# Altium schematic symbol library btretro_schlib.SchLib: 68 symbols (part 1 of 3)
Pins are listed as number, name and electrical type; pins without a type are passive.

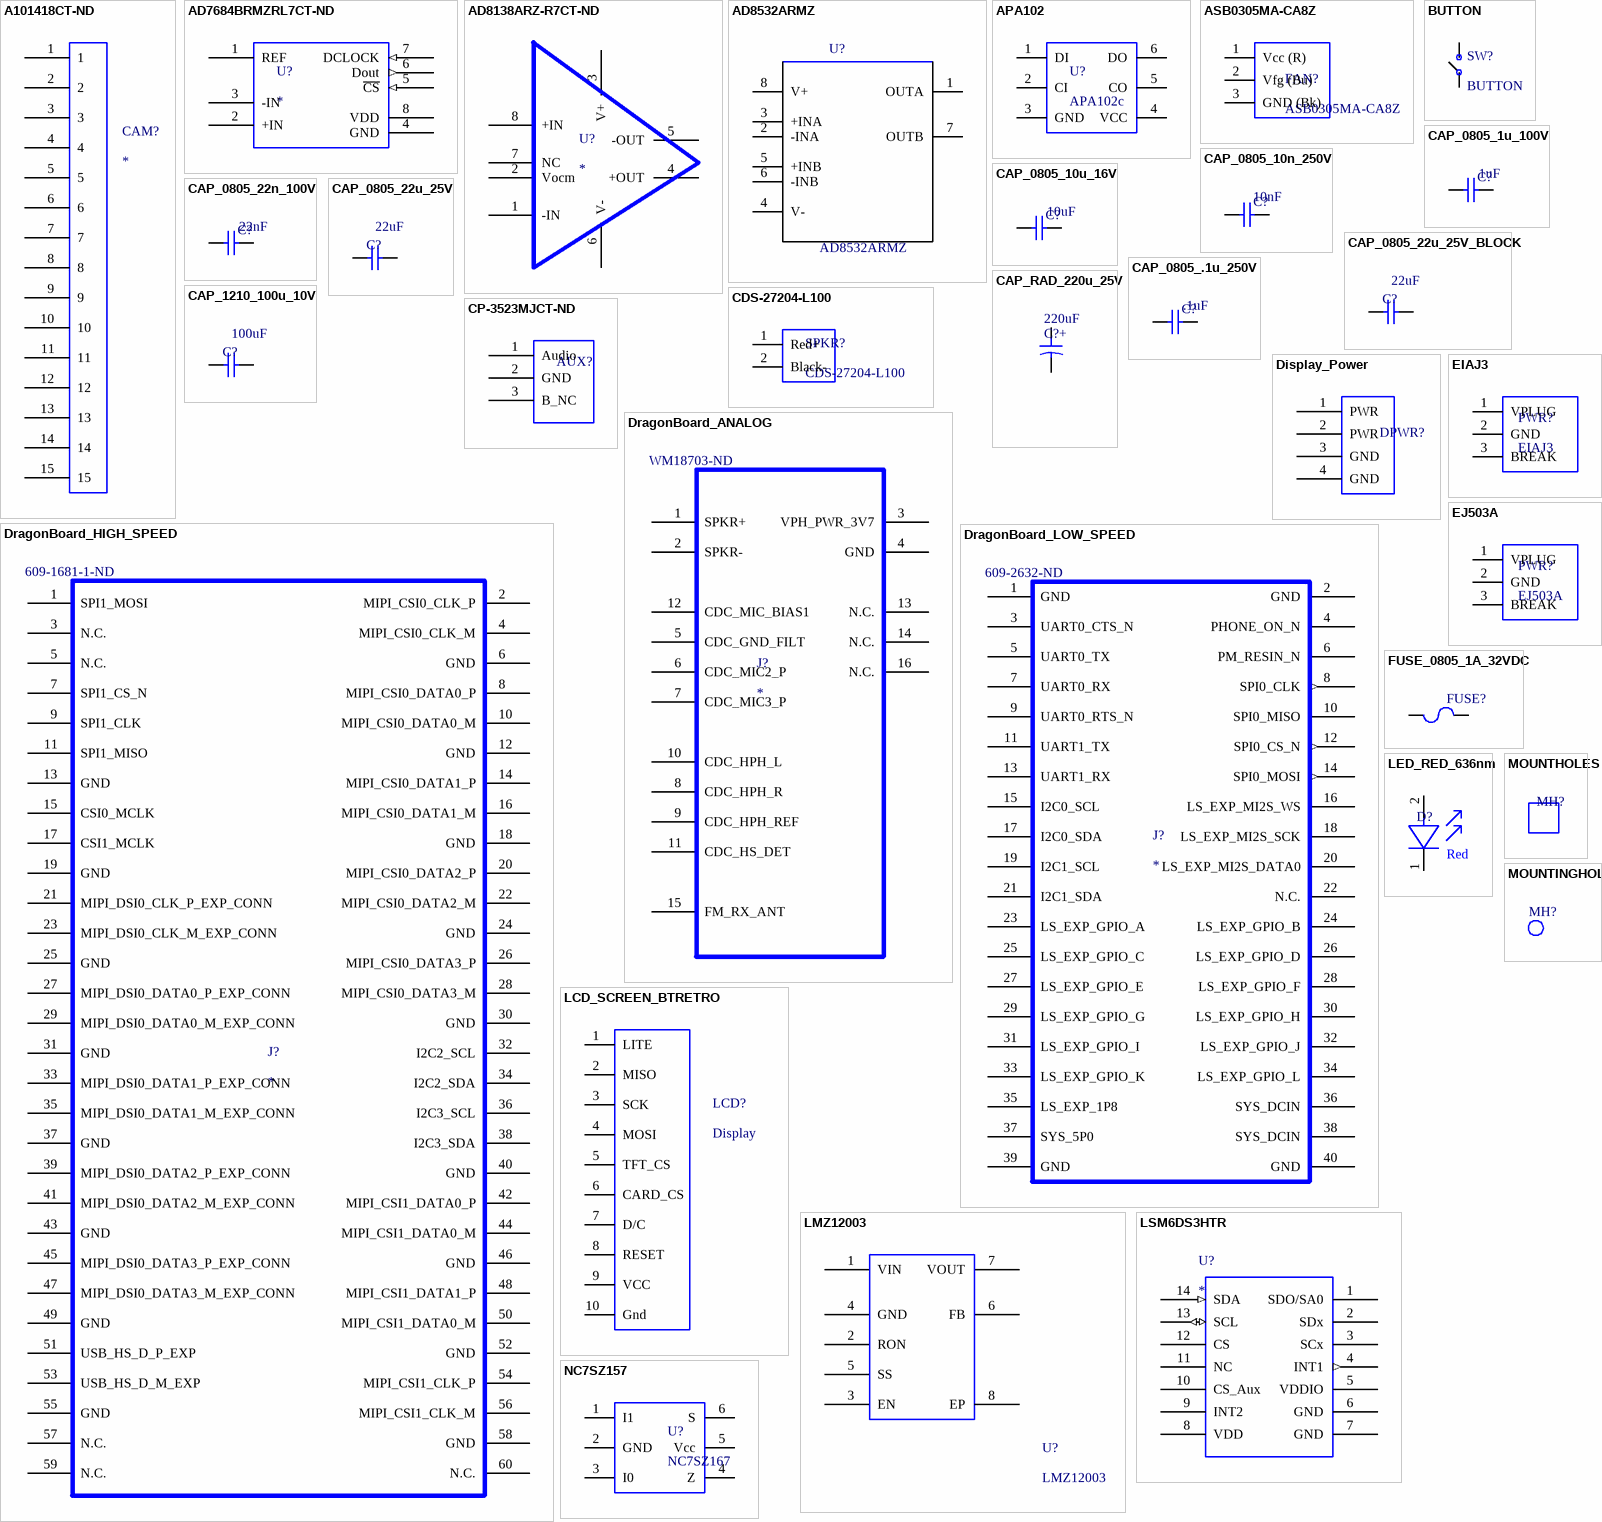
[diagram p0: symbols A101418CT-ND to NC7SZ157]

## A101418CT-ND
designator CAM?
CONN FPC VERT 15POS 1.00MM SMD; Manufacturer: TE Connectivity; Manufacturer Part Number: 1-1734248-5; Current Rating: 1A; Voltage Rating: 125V; Gender: Receptacle; Number of Positions: 15; Shielding: Unshielded; Connector Type: Connector,Receptacle,Socket; Wire/Cable Type: Flat Flex; Connector System: Flex-to-Board; Mating Alignment: Yes (With); PCB Mount Alignment: No (Without); PCB Mount Retention: With; PCB Mounting Orientation: Vertical; Pitch: 0.039inch; Supplier 1: Digi-Key; Stock 1: 14321; Pricing 1: 1=1.67, 10=1.515, 25=1.4224, 50=1.3606, 100=1.2988, 250=1.1751, 500=1.0824 (USD); Mount: Surface Mount; Case/Package: SMD/SMT; Contact Plating: Gold; Contact Material: Bronze; Housing Colour: Black; Housing Material: Thermoplastic; Min Operating Temperature: -4°C; Max Operating Temperature: 185°C; Package Quantity: 1000; Packaging: Tape and Reel; Number of Rows: 1; Termination: SMD/SMT; Number of Contacts: 15; Orientation: Straight; Max Current Rating: 1A; Sealable: No (Without); Shrouded: Yes (With); Length: 22.4mm; Height: 7.7mm; Width: 4.6mm; Depth: 4.6mm; REACH SVHC: Unknown; ELV: Compliant; Flammability Rating: UL94 V-0; ComponentLink1URL: https://datasheet.ciiva.com/672/eng-cd-1734248-e1-672176.pdf; ComponentLink1Description: https://datasheet.ciiva.com/672/eng-cd-1734248-e1-672176.pdf; ComponentLink2URL: https://datasheet.ciiva.com/672/eng-cd-1734248-e1-672177.pdf; ComponentLink2Description: https://datasheet.ciiva.com/672/eng-cd-1734248-e1-672177.pdf; ComponentLink3URL: https://datasheet.ciiva.com/672/eng-cd-1734248-e1-672178.pdf; ComponentLink3Description: https://datasheet.ciiva.com/672/eng-cd-1734248-e1-672178.pdf; ComponentLink4URL: https://datasheet.ciiva.com/7989/eng-ds-1-1773440-6-0506-7989477.pdf; ComponentLink4Description: https://datasheet.ciiva.com/7989/eng-ds-1-1773440-6-0506-7989477.pdf; ComponentLink5URL: https://datasheet.ciiva.com/16660/eng-ds-1-1773440-6-0506-16660185.pdf; ComponentLink5Description: https://datasheet.ciiva.com/16660/eng-ds-1-1773440-6-0506-16660185.pdf; Supplier Part Number 1: A101418CT-ND
footprint ZIF_15pin
pins: 1, 2, 3, 4, 5, 6, 7, 8, 9, 10, 11, 12, 13, 14, 15

## AD7684BRMZRL7CT-ND
designator U?
IC ADC 16BIT 100KSPS DIFF 8MSOP; Manufacturer: Analog Devices; Manufacturer Part Number: AD7684BRMZRL7; Max Power Dissipation: 6mW; Supply Voltage: 5V; Min Supply Voltage: 2.7V; Max Supply Voltage: 5.5V; Number of Channels: 1; Interface: SPI; Power Consumption: 4mW; Resolution: 16b; Sampling Rate: 100KS/s; Signal to Noise Ratio (SNR): 91dB; Number of Bits: 16; Polarity: Bipolar; Supply Type: Single; Integral Nonlinearity (INL): 3LSB; Input Capacitance: 30pF; Full Scale Error: 15LSB; Min Input Voltage: 500mV; Supplier 1: Digi-Key; Stock 1: 2500; Pricing 1: 1=14.81, 10=13.613, 100=11.4968 (USD); Case/Package: MSOP; Number of Pins: 8; Contact Plating: Gold; Min Operating Temperature: -40°C; Max Operating Temperature: 85°C; Package Quantity: 1000; Packaging: Tape and Reel; Number of Converters: 1; Number of Inputs: 1; Number of A/D Converters: 1; Number of Analog Inputs: 1; Number of Elements: 1; Power Dissipation: 6mW; Max Input Voltage: 5.5V; Length: 3mm; Height: 0.85mm; Width: 3mm; Lead Free: Contains Lead; ComponentLink1URL: https://datasheet.ciiva.com/16322/ad7684-278579-16322642.pdf; ComponentLink1Description: https://datasheet.ciiva.com/16322/ad7684-278579-16322642.pdf; ComponentLink2URL: https://datasheet.ciiva.com/8195/ad7684-8195814.pdf; ComponentLink2Description: https://datasheet.ciiva.com/8195/ad7684-8195814.pdf; ComponentLink3URL: https://datasheet.ciiva.com/1287/ad7684-1287305.pdf; ComponentLink3Description: https://datasheet.ciiva.com/1287/ad7684-1287305.pdf; ComponentLink4URL: https://datasheet.ciiva.com/16612/ad7684-16612158.pdf; ComponentLink4Description: https://datasheet.ciiva.com/16612/ad7684-16612158.pdf; Supplier Part Number 1: AD7684BRMZRL7CT-ND
footprint MSOP8
pins: 1 REF, 2 +IN, 3 -IN, 4 GND, 5 ~{CS} (in), 6 Dout (out), 7 DCLOCK (in), 8 VDD

## AD8138ARZ-R7CT-ND
designator U?
SP Amp Differential ADC Driver Single ±5.5V/11V 8-Pin SOIC N T/R; Manufacturer: Analog Devices; Manufacturer Part Number: AD8138ARZ-R7; Min Supply Voltage: 2.7V; Max Supply Voltage: 11V; Min Dual Supply Voltage: 1.4V; Max Dual Supply Voltage: 5.5V; Common Mode Rejection Ratio: 70dB; Number of Channels: 1; Bandwidth: 320MHz; Slew Rate: 1150V/µs; Nominal Supply Current: 20mA; Max Power Dissipation: 550mW; Input Offset Voltage (Vos): 1mV; Input Bias Current: 7uA; Voltage Gain: 0.028dB; Input Resistance: 6MR; Supplier 1: Digi-Key; Stock 1: 0; Pricing 1: 1=9.26, 10=8.365, 100=6.9255, 500=6.0306 (USD); Mount: Surface Mount; Case/Package: SOIC; Number of Pins: 8; Min Operating Temperature: -40°C; Max Operating Temperature: 85°C; Package Quantity: 1000; Packaging: Tape and Reel; Operating Supply Current: 20mA; Power Supply Rejection Ratio (PSRR): 70dB; Number of Elements: 1; Power Dissipation: 550mW; Gain Bandwidth Product: 320MHz; Number of Circuits: 1; -3db Bandwidth: 320MHz; Radiation Hardening: No; Lead Free: Contains Lead; ComponentLink1URL: https://datasheet.ciiva.com/2975/ad8138-2975957.pdf; ComponentLink1Description: https://datasheet.ciiva.com/2975/ad8138-2975957.pdf; ComponentLink2URL: https://datasheet.ciiva.com/14848/ad8138-14848182.pdf; ComponentLink2Description: https://datasheet.ciiva.com/14848/ad8138-14848182.pdf; ComponentLink3URL: https://datasheet.ciiva.com/7615/ad8138-7615959.pdf; ComponentLink3Description: https://datasheet.ciiva.com/7615/ad8138-7615959.pdf; ComponentLink4URL: https://datasheet.ciiva.com/14848/ad8138-14848183.pdf; ComponentLink4Description: https://datasheet.ciiva.com/14848/ad8138-14848183.pdf; ComponentLink5URL: https://datasheet.ciiva.com/17371/ad8138-17371687.pdf; ComponentLink5Description: https://datasheet.ciiva.com/17371/ad8138-17371687.pdf; ComponentLink6URL: https://datasheet.ciiva.com/15128/getdatasheetpartid-86354-15128216.pdf; ComponentLink6Description: https://datasheet.ciiva.com/15128/getdatasheetpartid-86354-15128216.pdf; ComponentLink7URL: https://datasheet.ciiva.com/2975/ad8138-2975645.pdf; ComponentLink7Description: https://datasheet.ciiva.com/2975/ad8138-2975645.pdf; ComponentLink8URL: https://datasheet.ciiva.com/15382/ad8138-246651-15382031.pdf; ComponentLink8Description: https://datasheet.ciiva.com/15382/ad8138-246651-15382031.pdf; Supplier Part Number 1: AD8138ARZ-R7CT-ND
footprint SOIC127P600X175-8N (SOIC, 8-Leads, Body 4.90x3.90mm, Pitch 1.27mm, IPC Medium Density)
pins: 1 -IN, 2 Vocm, 3 V+, 4 +OUT, 5 -OUT, 6 V-, 7 NC, 8 +IN

## AD8532ARMZ
designator U?
OP Amp Dual General Purpose Rail to Rail I/O 6 Volt 8-Pin SOIC N; MF: Analog Devices; MP: AD8532ARZ; Min Supply Voltage: 2.7V; Max Supply Voltage: 6V; Voltage Gain: 98.06dB; Common Mode Rejection Ratio: 47dB; Unity Gain Bandwidth Product: 3MHz; Slew Rate: 5V/µs; Number of Circuits: 2; Input Bias Current: 50pA; Input Offset Voltage (Vos): 25mV; Operating Supply Current: 2.5mA; Output Current per Channel: 250mA; Input Voltage Noise Density: 45nV/sqrt Hz; Power Supply Rejection Ratio (PSRR): 55dB; Quiescent Current: 1.25mA; Settling Time: 1.4us; Supply Voltage: 5V; Digi-Key_Purchase_URL: https://www.digikey.com/product-detail/en/analog-devices-inc/AD8532ARZ/AD8532ARZ-ND/643200?WT.z_cid=ref_snapeda; Package: SOIC-8 Analog Devices; Value: *; Supplier 1: Digi-Key; Manufacturer: Analog Devices; Manufacturer Part Number: AD8532ARZ; Stock 1: 4985; Pricing 1: 1=1.33, 98=1.1312, 196=0.9292, 588=0.7676, 1078=0.606, 2548=0.5656, 5096=0.5373 (USD); Case/Package: SOIC; Number of Pins: 8; Contact Plating: Tin,Matte; Min Operating Temperature: -40°C; Max Operating Temperature: 85°C; Package Quantity: 98; Packaging: Rail/Tube; Gain Bandwidth Product: 3MHz; Number of Channels: 2; Number of Elements: 2; Number of Amplifiers: 2; Bandwidth: 3MHz; Max Supply Current: 2.5mA; Length: 5mm; Height: 1.5mm; Width: 4mm; Radiation Hardening: No; Lead Free: Contains Lead; REACH SVHC: No SVHC; ComponentLink1URL: https://datasheet.ciiva.com/1794/ad8531-8532-8534-1794017.pdf; ComponentLink1Description: https://datasheet.ciiva.com/1794/ad8531-8532-8534-1794017.pdf; ComponentLink2URL: https://datasheet.ciiva.com/15130/getdatasheetpartid-67655-15130130.pdf; ComponentLink2Description: https://datasheet.ciiva.com/15130/getdatasheetpartid-67655-15130130.pdf; ComponentLink3URL: https://datasheet.ciiva.com/2973/ad8531-8532-8534-2973059.pdf; ComponentLink3Description: https://datasheet.ciiva.com/2973/ad8531-8532-8534-2973059.pdf; ComponentLink4URL: https://datasheet.ciiva.com/1135/82474-1135583.pdf; ComponentLink4Description: https://datasheet.ciiva.com/1135/82474-1135583.pdf; ComponentLink5URL: https://datasheet.ciiva.com/26849/ad8532arz-26849258.pdf; ComponentLink5Description: https://datasheet.ciiva.com/26849/ad8532arz-26849258.pdf; Digi-Key_Part_Number: AD8532ARZ-ND; Supplier Part Number 1: AD8532ARZ-ND
footprint SOIC127P600X175-8N (SOIC, 8-Leads, Body 4.90x3.90mm, Pitch 1.27mm, IPC Medium Density)
pins: 1 OUTA, 2 -INA, 3 +INA, 4 V- (power), 5 +INB, 6 -INB, 7 OUTB, 8 V+ (power)

## APA102
designator U?, comment APA102c
SPI LED; LINK: https://www.adafruit.com/product/2343
footprint LED_APA
pins: 1 DI, 2 CI, 3 GND, 4 VCC, 5 CO, 6 DO

## ASB0305MA-CA8Z
designator FAN?
FAN AXIAL 30X10MM 5VDC WIRE; Manufacturer: Delta Design; Airflow: 3.4CFM; Noise: 23dBA; Current Rating: 110mA; Max Power Dissipation: 550mW; RPM: 9000RPM; Bearing Type: Sleeve; Supplier 1: Digi-Key; Supplier Part Number 1: 603-1847-ND; Manufacturer Part Number: ASB0305MA-CA8Z; Stock 1: 98; Pricing 1: 1=6.96, 10=6.38, 50=5.365 (USD); Weight: 0.015lb; Min Operating Temperature: 14°C; Max Operating Temperature: 158°C; Package Quantity: 720; Termination: 3 Wire Leads; Width: 10mm; ComponentLink1URL: //media.digikey.com/pdf/Data%20Sheets/Delta%20PDFs/ASB0305MA-CA8Z_Spec.pdf; ComponentLink1Description: //media.digikey.com/pdf/Data%20Sheets/Delta%20PDFs/ASB0305MA-CA8Z_Spec.pdf
footprint FAN_HEADER
pins: 1 Vcc (R), 2 Vfg (Bu), 3 GND (Bk)

## BUTTON
designator SW?
...It's a button!; link: https://www.sparkfun.com/products/11996
footprint BUTTON
pins: 1, 2

## CAP_0805_1u_100V
designator C?  value 1uF  (hidden comment: CAP_0805_1u_100V)
CAP CER 1UF 100V X7S 0805; Manufacturer: TDK; Manufacturer Part Number: C2012X7S2A105K125AE; Tolerance: 10%; Supplier 1: Digi-Key; Supplier Part Number 1: 445-8887-1-ND; Stock 1: 75778; Pricing 1: 1=0.46, 10=0.327, 100=0.2152, 500=0.1594, 1000=0.1355 (USD); Case/Package: 0805; Case Code (Metric): 2012; Case Code (Imperial): 0805; Min Operating Temperature: -55°C; Max Operating Temperature: 125°C; Package Quantity: 1; Capacitance: 1uF; Voltage Rating: 100V; Packaging: Tape and Reel; Voltage Rating (DC): 100V; Dielectric: X7S; Termination: SMD/SMT; Composition: Ceramic; Length: 2mm; Height: 1.25mm; Width: 0.05inch; Thickness: 0.049inch; Depth: 1.25mm; Lead Free: Lead Free; ComponentLink1URL: https://datasheet.ciiva.com/6252/mlcc-commercial-soft-en-6252535.pdf; ComponentLink1Description: https://datasheet.ciiva.com/6252/mlcc-commercial-soft-en-6252535.pdf; ComponentLink2URL: https://datasheet.ciiva.com/6252/mlcc-commercial-soft-en-6252538.pdf; ComponentLink2Description: https://datasheet.ciiva.com/6252/mlcc-commercial-soft-en-6252538.pdf; ComponentLink3URL: https://datasheet.ciiva.com/6252/mlcc-commercial-soft-en-6252540.pdf; ComponentLink3Description: https://datasheet.ciiva.com/6252/mlcc-commercial-soft-en-6252540.pdf; ComponentLink4URL: https://datasheet.ciiva.com/24219/c2012x7s2a105k125ae-265181-24219982.pdf; ComponentLink4Description: https://datasheet.ciiva.com/24219/c2012x7s2a105k125ae-265181-24219982.pdf
footprint CAPC2012X135N
pins: 1, 2

## CAP_0805_10n_250V
designator C?  Capacitance: 10nF  (hidden comment: CAP_0805_10n_250V)
Cap Ceramic 0.1uF 250V X7T 10% SMD 0805 125C Plastic T/R; Manufacturer: TDK; Manufacturer Part Number: C2012X7R2E103K125AA; Description: CAP CER 10000PF 250V X7R 0805; Dielectric: X7R; Supplier 1: Digi-Key; Stock 1: 156464; Pricing 1: 1=0.19, 10=0.135, 100=0.0633, 500=0.0444, 1000=0.0367 (USD); Mount: Surface Mount; Case/Package: 0805; Number of Pins: 2; Weight: 0.000194oz; Case Code (Metric): 2012; Case Code (Imperial): 0805; Min Operating Temperature: -55°C; Max Operating Temperature: 125°C; Packaging: Tape and Reel; Package Quantity: 1; Termination: SMD/SMT; Tolerance: 10%; Voltage Rating: 250V; Voltage Rating (DC): 250V; Composition: Ceramic; Length: 2mm; Height: 1.25mm; Width: 0.049inch; Thickness: 0.053inch; Depth: 1.25mm; Lead Free: Lead Free; REACH SVHC: No SVHC; ComponentLink1URL: https://datasheet.ciiva.com/24219/c2012x7r2e103k125aa-265098-24219253.pdf; ComponentLink1Description: https://datasheet.ciiva.com/24219/c2012x7r2e103k125aa-265098-24219253.pdf; ComponentLink2URL: https://datasheet.ciiva.com/22684/1484596-22684119.pdf; ComponentLink2Description: https://datasheet.ciiva.com/22684/1484596-22684119.pdf; ComponentLink3URL: https://datasheet.ciiva.com/7975/1833281-7975113.pdf; ComponentLink3Description: https://datasheet.ciiva.com/7975/1833281-7975113.pdf; ComponentLink4URL: https://datasheet.ciiva.com/28602/1484596-28602284.pdf; ComponentLink4Description: https://datasheet.ciiva.com/28602/1484596-28602284.pdf; ComponentLink5URL: https://datasheet.ciiva.com/16427/e412-c-16427789.pdf; ComponentLink5Description: https://datasheet.ciiva.com/16427/e412-c-16427789.pdf; Supplier Part Number 1: 445-2280-1-ND
footprint CAPC2012X135N
pins: 1, 2

## CAP_0805_10u_16V
designator C?  value 10uF  (hidden comment: CAP_0805_10u_16V)
Cap Ceramic 10uF 16V X5R 10% SMD 0805 85C T/R; Manufacturer: Johanson Dielectrics; Manufacturer Part Number: 160R15X106KV4E; Supplier 1: Digi-Key; Supplier Part Number 1: 709-1229-1-ND; Stock 1: 36636; Pricing 1: 1=0.55, 10=0.387, 100=0.2552, 500=0.189, 1000=0.1607 (USD); Mount: Surface Mount; Case/Package: 0805; Number of Pins: 2; Weight: 0.000194oz; Case Code (Imperial): 0805; Case Code (Metric): 2012; Min Operating Temperature: -55°C; Max Operating Temperature: 85°C; Voltage Rating: 16V; Capacitance: 10uF; Voltage Rating (DC): 16V; Tolerance: 10%; Packaging: Tape and Reel; Package Quantity: 2000; Dielectric: X5R; Termination: SMD/SMT; Length: 2.03mm; Height: 1.27mm; Width: 1.27mm; Thickness: 0.06inch; Depth: 1.27mm; Radiation Hardening: No; REACH SVHC: No SVHC; ComponentLink1URL: https://datasheet.ciiva.com/26948/getdatasheetpartid-132904-26948555.pdf; ComponentLink1Description: https://datasheet.ciiva.com/26948/getdatasheetpartid-132904-26948555.pdf
footprint CAPC2012X135N
pins: 1, 2

## CAP_0805_22n_100V
designator C?, comment value 22nF  (hidden comment: CAP_0805_m22n)
CAP CER 0.022UF 100V X7R 0805; Manufacturer: TDK; Manufacturer Part Number: CGJ4J2X7R2A223K125AA; Tolerance: 10%; Supplier 1: Digi-Key; Supplier Part Number 1: 445-9184-1-ND; Stock 1: 2508; Pricing 1: 1=0.42, 10=0.292, 100=0.175, 500=0.1312, 1000=0.1108 (USD); Case/Package: 0805; Weight: 0.000194oz; Case Code (Metric): 2012; Case Code (Imperial): 0805; Min Operating Temperature: -55°C; Max Operating Temperature: 125°C; Package Quantity: 1; Capacitance: 22nF; Voltage Rating: 100V; Packaging: Tape and Reel; Voltage Rating (DC): 100V; Dielectric: X7R; Termination: SMD/SMT; Composition: Ceramic; Length: 0.08inch; Height: 1.25mm; Width: 0.05inch; Thickness: 0.057inch; ComponentLink1URL: http://www.mouser.com/ds/2/400/lcc_highreliability_midvoltage_en-520194.pdf; ComponentLink1Description: http://www.mouser.com/ds/2/400/lcc_highreliability_midvoltage_en-520194.pdf; ComponentLink2URL: http://product.tdk.com/capacitor/mlcc/en/documents/mlccspec_highreliability_en.pdf; ComponentLink2Description: http://product.tdk.com/capacitor/mlcc/en/documents/mlccspec_highreliability_en.pdf
footprint CAPC2012X135N
pins: 1, 2

## CAP_0805_22u_25V
designator C?  value 22uF  (hidden comment: CAP_0805_22u_25V)
22µF ±20% 25V X5R Ceramic Capacitor -55°C ~ 85°C Surface Mount, MLCC 0805 (2012 Metric) 0.079" L x 0.049" W (2.00mm x 1.25mm); Manufacturer: Samsung; Manufacturer Part Number: CL21A226MAQNNNE; Supplier 1: Digi-Key; Supplier Part Number 1: 1276-2908-1-ND; Stock 1: 536403; Pricing 1: 1=0.92, 10=0.678, 100=0.465, 500=0.3681, 1000=0.31 (USD); Mount: Surface Mount; Case/Package: 0805; Case Code (Metric): 2012; Case Code (Imperial): 0805; Contact Plating: Nickel,Tin; Min Operating Temperature: -55°C; Max Operating Temperature: 85°C; Package Quantity: 1; Packaging: Tape and Reel; Capacitance: 22uF; Tolerance: 20%; Voltage Rating: 25V; Dielectric: X5R; Termination: Wraparound; Length: 2mm; Width: 0.049inch; Thickness: 0.055inch; Depth: 1.25mm; ComponentLink1URL: https://datasheet.ciiva.com/25724/cl21a226maqnnne-25724468.pdf; ComponentLink1Description: https://datasheet.ciiva.com/25724/cl21a226maqnnne-25724468.pdf
footprint CAPC2012X135N
pins: 1, 2

## CAP_0805_22u_25V_BLOCK
designator C?  value 22uF  (hidden comment: CAP_0805_22u_25V_BLOCK)
22µF ±20% 25V X5R Ceramic Capacitor -55°C ~ 85°C Surface Mount, MLCC 0805 (2012 Metric) 0.079" L x 0.049" W (2.00mm x 1.25mm); Manufacturer: Samsung; Manufacturer Part Number: CL21A226MAQNNNE; Supplier 1: Digi-Key; Supplier Part Number 1: 1276-2908-1-ND; Stock 1: 536403; Pricing 1: 1=0.92, 10=0.678, 100=0.465, 500=0.3681, 1000=0.31 (USD); Mount: Surface Mount; Case/Package: 0805; Case Code (Metric): 2012; Case Code (Imperial): 0805; Contact Plating: Nickel,Tin; Min Operating Temperature: -55°C; Max Operating Temperature: 85°C; Package Quantity: 1; Packaging: Tape and Reel; Capacitance: 22uF; Tolerance: 20%; Voltage Rating: 25V; Dielectric: X5R; Termination: Wraparound; Length: 2mm; Width: 0.049inch; Thickness: 0.055inch; Depth: 1.25mm; ComponentLink1URL: https://datasheet.ciiva.com/25724/cl21a226maqnnne-25724468.pdf; ComponentLink1Description: https://datasheet.ciiva.com/25724/cl21a226maqnnne-25724468.pdf
footprint CAPC2012X135N
pins: 1, 2

## CAP_0805_.1u_250V
designator C?  value .1uF  (hidden comment: CAP_0805_.1u_250V)
Cap Ceramic 0.1uF 250V X7T 10% SMD 0805 125C Plastic T/R; Manufacturer: TDK; Manufacturer Part Number: C2012X7T2E104K125AE; Capacitance: 100nF; Supplier 1: Digi-Key; Supplier Part Number 1: 445-8883-1-ND; Stock 1: 30376; Pricing 1: 1=0.37, 10=0.25, 100=0.1419, 500=0.1002, 1000=0.0877 (USD); Case/Package: 0805; Weight: 0.000194oz; Case Code (Metric): 2012; Case Code (Imperial): 0805; Min Operating Temperature: -55°C; Max Operating Temperature: 125°C; Package Quantity: 1; Voltage Rating: 250V; Tolerance: 10%; Packaging: Tape and Reel; Voltage Rating (DC): 250V; Dielectric: X7T; Termination: SMD/SMT; Composition: Ceramic; Length: 2mm; Height: 1.25mm; Width: 0.05inch; Thickness: 0.049inch; Depth: 1.25mm; REACH SVHC: No SVHC; ComponentLink1URL: https://datasheet.ciiva.com/24219/c2012x7t2e104k125ae-265154-24219519.pdf; ComponentLink1Description: https://datasheet.ciiva.com/24219/c2012x7t2e104k125ae-265154-24219519.pdf
footprint CAPC2012X135N
pins: 1, 2

## CAP_1210_100u_10V
designator C?  value 100uF  (hidden comment: CAP_1210_100u_10V)
Cap Ceramic 100uF 10V X5R 20% SMD 1210 85C Embossed T/R; Manufacturer: Murata; Manufacturer Part Number: GRM32ER61A107ME20L; Dissipation Factor: 0.035%; Supplier 1: Digi-Key; Supplier Part Number 1: 490-9969-1-ND; Stock 1: 195702; Pricing 1: 1=1.08, 10=0.822, 100=0.5882, 500=0.4554 (USD); Case/Package: 1210; Weight: 0.00388oz; Case Code (Metric): 3225; Material: Ceramic; Case Code (Imperial): 1210; Dielectric Material: Ceramic; Min Operating Temperature: -55°C; Max Operating Temperature: 85°C; Capacitance: 100uF; Tolerance: 20%; Packaging: Tape and Reel; Dielectric: X5R; Voltage Rating: 10V; Voltage: 10V; Termination: SMD/SMT; Voltage Rating (DC): 10V; Package Quantity: 1000; Length: 3.2mm; Height: 2.5mm; Width: 2.5mm; Thickness: 0.106inch; Depth: 2.5mm; REACH SVHC: No SVHC; Lead Free: Lead Free; ComponentLink1URL: http://components.arrow.com/part/dataview/0323_06932945; ComponentLink1Description: http://components.arrow.com/part/dataview/0323_06932945; ComponentLink2URL: http://www.mouser.com/ds/2/281/c02e-2905.pdf; ComponentLink2Description: http://www.mouser.com/ds/2/281/c02e-2905.pdf; ComponentLink3URL: http://www.farnell.com/datasheets/2079200.pdf; ComponentLink3Description: http://www.farnell.com/datasheets/2079200.pdf; ComponentLink4URL: http://psearch.en.murata.com/capacitor/product/GRM32ER61A107ME20%23.pdf; ComponentLink4Description: http://psearch.en.murata.com/capacitor/product/GRM32ER61A107ME20%23.pdf
footprint FP_1210
pins: 1, 2

## CAP_RAD_220u_25V
designator C?, comment Capacitance: 220uF  (hidden comment: CAP ALUM 220UF 20% 25V SMD)
Manufacturer: Nichicon; Manufacturer Part Number: UWT1E221MNL1GS; Dielectric Material: Aluminium; Ripple Current: 155mA; Leakage Current: 3uA; Life (Hours): 1000Hour; Dissipation Factor: 0.16%; Supplier 1: Digi-Key; Stock 1: 22315; Pricing 1: 1=0.44, 10=0.309, 100=0.2034 (USD); Mount: Surface Mount; Case/Package: SMD/SMT; Number of Pins: 2; Min Operating Temperature: -55°C; Max Operating Temperature: 105°C; Tolerance: 20%; Package Quantity: 500; Voltage Rating: 25V; Packaging: Tape and Reel; Ripple Current (AC): 155mA; Voltage Rating (DC): 25V; Termination: SMD/SMT; Voltage: 25V; Diameter: 8mm; Length: 10mm; Height: 10mm; Height - Seated (Max): 0.394inch; Lead Pitch: 3.1mm; Radiation Hardening: No; REACH SVHC: No SVHC; Lead Free: Lead Free; ComponentLink1URL: https://datasheet.ciiva.com/97/e-wt-97056.pdf; ComponentLink1Description: https://datasheet.ciiva.com/97/e-wt-97056.pdf; ComponentLink2URL: https://datasheet.ciiva.com/97/e-wt-97057.pdf; ComponentLink2Description: https://datasheet.ciiva.com/97/e-wt-97057.pdf; ComponentLink3URL: https://datasheet.ciiva.com/30522/getdatasheetpartid-450026-30522226.pdf; ComponentLink3Description: https://datasheet.ciiva.com/30522/getdatasheetpartid-450026-30522226.pdf; ComponentLink4URL: https://datasheet.ciiva.com/5360/e-wt-30307-5360729.pdf; ComponentLink4Description: https://datasheet.ciiva.com/5360/e-wt-30307-5360729.pdf; ComponentLink5URL: https://datasheet.ciiva.com/7851/e-wt-7851755.pdf; ComponentLink5Description: https://datasheet.ciiva.com/7851/e-wt-7851755.pdf; ComponentLink6URL: https://datasheet.ciiva.com/17526/e-wt-17526956.pdf; ComponentLink6Description: https://datasheet.ciiva.com/17526/e-wt-17526956.pdf; ComponentLink7URL: https://datasheet.ciiva.com/28458/1910938-28458412.pdf; ComponentLink7Description: https://datasheet.ciiva.com/28458/1910938-28458412.pdf; ComponentLink8URL: https://datasheet.ciiva.com/97/e-wt-97055.pdf; ComponentLink8Description: https://datasheet.ciiva.com/97/e-wt-97055.pdf; Supplier Part Number 1: 493-2192-1-ND
footprint CAP_RADIAL (Aluminum Electrolytic Capacitor, Body 8.30x8.30x10.50mm, IPC Low Density)
pins: 1, 2
text: +

## CDS-27204-L100
designator SPKR?
4 Ohm Magnetic Speaker 2W 20Hz ~ 20kHz Top Rectangular 93dB; Manufacturer: CUI; Impedance: 4R; Max Power Dissipation: 2.5W; Max Current Rating: 16A; Max Supply Voltage: 250V; Number of Poles: 2; Number of Levels: 1; Current: 18A; Voltage: 300V; Voltage Rating (DC): 320V; Connector Type: Screw; Wire Gauge (Max): 26AWG; Wire Gauge (Min): 12AWG; Pitch: 5mm; Wire/Cable Gauge: 14AWG; Approvals: UL; Supplier 1: Digi-Key; Manufacturer Part Number: CDS-27204-L100; Stock 1: 445; Pricing 1: 1=3.55, 10=3.179, 25=2.8052, 50=2.5246, 100=2.4871, 250=2.3842, 500=2.2908, 1000=2.244 (USD); Shape: Rectangular; Power Rating: 2W; Termination: Wire Leads; Length: 27mm; Height: 6.1mm; Width: 20mm; Lead Free: Lead Free; Supplier Part Number 1: 102-3547-ND; Supplier 2: Digi-Key; Stock 2: 16172; Pricing 2: 1=0.38, 10=0.368, 50=0.352, 100=0.3424, 250=0.32, 500=0.2944, 1000=0.272 (USD); Mount: Through Hole; Weight: 0.067021oz; Colour: Green; Material: Nylon; Housing Colour: Green; Housing Material: Polyamide; Insulation Material: Nylon; Number of Rows: 1; Current Rating: 16A; Voltage Rating: 250V; Package Quantity: 250; Packaging: Bulk; Number of Positions: 2; Number of Positions Per Level: 2; Number of Contacts: 2; Number of Circuits: 2; Orientation: Straight; Depth: 9mm; Radiation Hardening: No; Flammability Rating: UL94 V-0; ComponentLink1URL: https://datasheet.ciiva.com/824/combiconcompact5-0mmseries-824222.pdf; ComponentLink1Description: https://datasheet.ciiva.com/824/combiconcompact5-0mmseries-824222.pdf; ComponentLink2URL: https://datasheet.ciiva.com/15169/getdatasheetpartid-177903-15169663.pdf; ComponentLink2Description: https://datasheet.ciiva.com/15169/getdatasheetpartid-177903-15169663.pdf; ComponentLink3URL: https://datasheet.ciiva.com/16047/1935161-16047247.pdf; ComponentLink3Description: https://datasheet.ciiva.com/16047/1935161-16047247.pdf; Supplier Part Number 2: 277-1667-ND
footprint PHOENIX_2POS_1935161
footprint SPK_BTRETRO
pins: 1 Red+, 2 Black-

## CP-3523MJCT-ND
designator AUX?  (value not drawn)
3.50mm (0.141", 1/8", Mini Plug) - Headphone Phone Jack Mono Connector Solder; Manufacturer: CUI; Manufacturer Part Number: MJ-3523-SMT-TR; Gender: Female; Shielding: Unshielded; Current Rating: 1A; Supplier 1: Digi-Key; Stock 1: 44959; Pricing 1: 1=1.02, 10=0.9, 25=0.8476, 50=0.8122, 100=0.7768, 250=0.7062 (USD); Case/Package: SMD/SMT; Contact Plating: Silver; Packaging: Cut Tape; Termination: Solder; Lead Free: Lead Free; Supplier Part Number 1: CP-3523MJCT-ND
footprint Audio_Conn_Mono
pins: 1 Audio, 2 GND, 3 B_NC

## Display_Power
designator DPWR?  (value not drawn)
4 Position Thru Hole Connection; Manufacturer: Phoenix Contact; Manufacturer Part Number: 1935187; Max Current Rating: 16A; Number of Poles: 4; Voltage Rating: 250V; Number of Levels: 1; Current: 18A; Voltage: 300V; Voltage Rating (DC): 508mV; Wire Gauge (Max): 26AWG; Wire Gauge (Min): 12AWG; Pitch: 5mm; Wire/Cable Gauge: 14AWG; Approvals: UL; Supplier 1: Digi-Key; Stock 1: 5969; Pricing 1: 1=0.77, 10=0.736, 50=0.704, 100=0.6848, 250=0.64, 500=0.5888, 1000=0.544 (USD); Mount: Through Hole; Weight: 0.134041oz; Colour: Green; Material: Nylon; Housing Colour: Green; Housing Material: Polyamide; Insulation Material: Nylon; Current Rating: 16A; Package Quantity: 250; Number of Rows: 1; Max Supply Voltage: 250V; Packaging: Bulk; Termination: Screw; Number of Positions Per Level: 4; Number of Contacts: 4; Number of Circuits: 4; Orientation: Straight; Number of Positions: 4; Length: 20mm; Height: 11.3mm; Width: 15mm; Depth: 9mm; Radiation Hardening: No; Lead Free: Lead Free; Flammability Rating: UL94 V-0; ComponentLink1URL: https://datasheet.ciiva.com/16047/1935187-16047251.pdf; ComponentLink1Description: https://datasheet.ciiva.com/16047/1935187-16047251.pdf; ComponentLink2URL: https://datasheet.ciiva.com/823/combiconcompact5-0mmseries-823770.pdf; ComponentLink2Description: https://datasheet.ciiva.com/823/combiconcompact5-0mmseries-823770.pdf; Supplier Part Number 1: 277-1579-ND
footprint PHOENIX_4POS_1935187
pins: 1 PWR, 2 PWR, 3 GND, 4 GND

## DragonBoard_ANALOG
designator J?  Supplier Part Number 1: WM18703-ND
Conn Socket Strip RCP 16 POS 2mm Solder ST SMD Tube; Manufacturer: Molex; Manufacturer Part Number: 0791091007; Connector Type: Receptacle,Socket; Number of Positions: 16; Gender: Female; Max Voltage Rating (AC): 125V; Contact Resistance: 25mR; Row Spacing: 0.079inch; Supplier 1: Digi-Key; Stock 1: 8937; Pricing 1: 1=2.66, 10=2.554, 100=2.1284, 500=1.8091, 1000=1.5431, 5000=1.3835 (USD); Case/Package: SMD/SMT; Colour: Black; Contact Plating: Nickel,Gold; Contact Material: Bronze; Housing Colour: Black; Housing Material: Polymer; Min Operating Temperature: -55°C; Max Operating Temperature: 105°C; Packaging: Rail/Tube; Number of Rows: 2; Termination: Solder; Number of Contacts: 16; Orientation: Straight; Length: 16.19mm; Pitch: 2mm; Depth: 4.19mm; ComponentLink1URL: https://datasheet.ciiva.com/10078/0791091007-pcb-receptacles-10078749.pdf; ComponentLink1Description: https://datasheet.ciiva.com/10078/0791091007-pcb-receptacles-10078749.pdf
footprint 16_PIN_ANALOG_CONN
pins: 1 SPKR+, 2 SPKR-, 3 VPH_PWR_3V7, 4 GND, 5 CDC_GND_FILT, 6 CDC_MIC2_P, 7 CDC_MIC3_P, 8 CDC_HPH_R, 9 CDC_HPH_REF, 10 CDC_HPH_L, 11 CDC_HS_DET, 12 CDC_MIC_BIAS1, 13 N.C., 14 N.C., 15 FM_RX_ANT, 16 N.C.

## DragonBoard_HIGH_SPEED
designator J?  Supplier Part Number 1: 609-1681-1-ND
60 Position Connector Plug, Center Strip Contacts Surface Mount Gold; Manufacturer: Amphenol FCI; Manufacturer Part Number: 61083-064402LF; Contact Resistance: 50mR; Number of Positions: 60; Max Voltage Rating (AC): 100V; Current Rating: 500mA; Gender: Male; Pitch: 0.8mm; Stack Height: 7.7mm; Supplier 1: Digi-Key; Stock 1: 579; Pricing 1: 1=6.36, 10=6.094, 25=5.5644, 50=5.2994, 100=5.0344, 250=4.5044 (USD); Mount: Surface Mount; Case/Package: SMD/SMT; Contact Plating: Nickel,Gold; Contact Material: Brass,Copper Alloy; Housing Material: Polymer; Min Operating Temperature: -40°C; Max Operating Temperature: 125°C; Number of Rows: 2; Packaging: Tape and Reel; Package Quantity: 600; Connector Type: Plug; Termination: Solder; Number of Contacts: 60; Orientation: Straight; Voltage Rating: 100V; Length: 29.8mm; Depth: 6mm; Width: 6mm; Lead Free: Lead Free; Flammability Rating: UL94 V-0; ComponentLink1URL: https://datasheet.ciiva.com/15208/getdatasheetpartid-64898-15208309.pdf; ComponentLink1Description: https://datasheet.ciiva.com/15208/getdatasheetpartid-64898-15208309.pdf; ComponentLink2URL: https://datasheet.ciiva.com/17088/70248518-17088294.pdf; ComponentLink2Description: https://datasheet.ciiva.com/17088/70248518-17088294.pdf; ComponentLink3URL: https://datasheet.ciiva.com/394/61083-394311.pdf; ComponentLink3Description: https://datasheet.ciiva.com/394/61083-394311.pdf; ComponentLink4URL: https://datasheet.ciiva.com/5129/61083-5129495.pdf; ComponentLink4Description: https://datasheet.ciiva.com/5129/61083-5129495.pdf; ComponentLink5URL: https://datasheet.ciiva.com/10034/61083-10034439.pdf; ComponentLink5Description: https://datasheet.ciiva.com/10034/61083-10034439.pdf; ComponentLink6URL: https://datasheet.ciiva.com/394/61083-394312.pdf; ComponentLink6Description: https://datasheet.ciiva.com/394/61083-394312.pdf; ComponentLink7URL: https://datasheet.ciiva.com/394/61083-394313.pdf; ComponentLink7Description: https://datasheet.ciiva.com/394/61083-394313.pdf
footprint DB_HIGH_SPEED
pins: 1 SPI1_MOSI, 2 MIPI_CSI0_CLK_P, 3 N.C., 4 MIPI_CSI0_CLK_M, 5 N.C., 6 GND, 7 SPI1_CS_N, 8 MIPI_CSI0_DATA0_P, 9 SPI1_CLK, 10 MIPI_CSI0_DATA0_M, 11 SPI1_MISO, 12 GND, 13 GND, 14 MIPI_CSI0_DATA1_P, 15 CSI0_MCLK, 16 MIPI_CSI0_DATA1_M, 17 CSI1_MCLK, 18 GND, 19 GND, 20 MIPI_CSI0_DATA2_P, 21 MIPI_DSI0_CLK_P_EXP_CONN, 22 MIPI_CSI0_DATA2_M, 23 MIPI_DSI0_CLK_M_EXP_CONN, 24 GND, 25 GND, 26 MIPI_CSI0_DATA3_P, 27 MIPI_DSI0_DATA0_P_EXP_CONN, 28 MIPI_CSI0_DATA3_M, 29 MIPI_DSI0_DATA0_M_EXP_CONN, 30 GND, 31 GND, 32 I2C2_SCL, 33 MIPI_DSI0_DATA1_P_EXP_CONN, 34 I2C2_SDA, 35 MIPI_DSI0_DATA1_M_EXP_CONN, 36 I2C3_SCL, 37 GND, 38 I2C3_SDA, 39 MIPI_DSI0_DATA2_P_EXP_CONN, 40 GND, 41 MIPI_DSI0_DATA2_M_EXP_CONN, 42 MIPI_CSI1_DATA0_P, 43 GND, 44 MIPI_CSI1_DATA0_M, 45 MIPI_DSI0_DATA3_P_EXP_CONN, 46 GND, 47 MIPI_DSI0_DATA3_M_EXP_CONN, 48 MIPI_CSI1_DATA1_P, 49 GND, 50 MIPI_CSI1_DATA0_M, 51 USB_HS_D_P_EXP, 52 GND, 53 USB_HS_D_M_EXP, 54 MIPI_CSI1_CLK_P, 55 GND, 56 MIPI_CSI1_CLK_M, 57 N.C., 58 GND, 59 N.C., 60 N.C.

## DragonBoard_LOW_SPEED
designator J?  Supplier Part Number 1: 609-2632-ND
40 Positions Header, Unshrouded Connector 0.079" (2.00mm) Surface Mount Gold, GXT™; Manufacturer: Amphenol FCI; Manufacturer Part Number: 57202-G52-20LF; Number of Positions: 40; Insulation Resistance: 1GR; Max Voltage Rating (AC): 650V; Gender: Male; Connector Type: Male Pin; Contact Resistance: 25mR; Current Rating: 2A; Pitch: 2mm; Row Spacing: 0.079inch; Mating Post Length: 4mm; Supplier 1: Digi-Key; Stock 1: 3189; Pricing 1: 1=4.58, 10=4.395, 100=3.6624, 500=3.113, 1000=2.6552 (USD); Mount: Surface Mount; Contact Plating: Nickel,Gold,GXT; Contact Material: Bronze,Copper Alloy; Colour: Black; Housing Colour: Black; Housing Material: Thermoplastic; Min Operating Temperature: -55°C; Max Operating Temperature: 125°C; Package Quantity: 100; Packaging: Bulk; Number of Rows: 2; Termination: Solder; Number of Contacts: 40; Orientation: Straight; Contact Gender: Male; Voltage Rating: 650V; Length: 40mm; Depth: 4mm; Width: 4mm; Contact Mating Length: 0.157inch; Radiation Hardening: No; REACH SVHC: No SVHC; Lead Free: Lead Free; ComponentLink1URL: https://datasheet.ciiva.com/9473/57202-9473862.pdf; ComponentLink1Description: https://datasheet.ciiva.com/9473/57202-9473862.pdf; ComponentLink2URL: https://datasheet.ciiva.com/711/57202-711726.pdf; ComponentLink2Description: https://datasheet.ciiva.com/711/57202-711726.pdf
footprint 57202_40_PIN_HEADER
pins: 1 GND, 2 GND, 3 UART0_CTS_N, 4 PHONE_ON_N, 5 UART0_TX, 6 PM_RESIN_N, 7 UART0_RX, 8 SPI0_CLK (out), 9 UART0_RTS_N, 10 SPI0_MISO, 11 UART1_TX, 12 SPI0_CS_N (out), 13 UART1_RX, 14 SPI0_MOSI (out), 15 I2C0_SCL, 16 LS_EXP_MI2S_WS, 17 I2C0_SDA, 18 LS_EXP_MI2S_SCK, 19 I2C1_SCL, 20 LS_EXP_MI2S_DATA0, 21 I2C1_SDA, 22 N.C., 23 LS_EXP_GPIO_A, 24 LS_EXP_GPIO_B, 25 LS_EXP_GPIO_C, 26 LS_EXP_GPIO_D, 27 LS_EXP_GPIO_E, 28 LS_EXP_GPIO_F, 29 LS_EXP_GPIO_G, 30 LS_EXP_GPIO_H, 31 LS_EXP_GPIO_I, 32 LS_EXP_GPIO_J, 33 LS_EXP_GPIO_K, 34 LS_EXP_GPIO_L, 35 LS_EXP_1P8, 36 SYS_DCIN, 37 SYS_5P0, 38 SYS_DCIN, 39 GND, 40 GND

## EIAJ3
designator PWR?
PJ1-021 Series 1.65 mm x 5.15 mm 16 V Right Angle SMT Power Jack; Manufacturer: CUI; Manufacturer Part Number: PJ1-021-SMT-TR; Gender: Male; Shielding: Unshielded; Current Rating: 5A; Voltage Rating: 24V; Insulation Resistance: 100MR; Number of Conductors: 2; Supplier 1: Digi-Key; Stock 1: 15825; Pricing 1: 1=0.89, 10=0.783, 25=0.7364, 50=0.7058, 100=0.6752, 250=0.6138 (USD); Mount: Surface Mount; Case/Package: SMD/SMT; Colour: Black; Contact Material: Brass; Contact Plating: Silver; Housing Colour: Black; Housing Material: Thermoplastic; Min Operating Temperature: -25°C; Max Operating Temperature: 85°C; Package Quantity: 500; Termination: SMD/SMT; Connector Type: Jack; Contact Gender: Male; Packaging: Tape and Reel; Orientation: Horizontal; Lead Free: Lead Free; Flammability Rating: UL94 V-0; ComponentLink1URL: http://www.mouser.com/ds/2/670/pj1-021-smt-528091.pdf; ComponentLink1Description: http://www.mouser.com/ds/2/670/pj1-021-smt-528091.pdf; ComponentLink2URL: http://www.cui.com/product/resource/digikeypdf/pj1-021-smt.pdf; ComponentLink2Description: http://www.cui.com/product/resource/digikeypdf/pj1-021-smt.pdf; ComponentLink3URL: http://www.cui.com/Product/Resource/FuturePDF/PJ1-021-SMT.pdf; ComponentLink3Description: http://www.cui.com/Product/Resource/FuturePDF/PJ1-021-SMT.pdf; Supplier Part Number 1: CP1-021PJCT-ND
footprint EIAJ3 BARREL
pins: 1 VPLUG, 2 GND, 3 BREAK

## EJ503A
designator PWR?
DC Barrel Jack 2.1mm x 5.5mm 12V 5A; Manufacturer: Memory Protection Devices; Supplier 1: Digi-Key; Manufacturer Part Number: EJ503A; Stock 1: 0; Supplier Part Number 1: EJ503A-ND
footprint BARRELJACK
pins: 1 VPLUG, 2 GND, 3 BREAK

## FUSE_0805_1A_32VDC
designator FUSE?  (value not drawn)
FUSE 1.00A 0805 VFAST SMD; Manufacturer: Vishay; Manufacturer Part Number: MFU0805FF01000P100; Voltage Rating (DC): 32V; Current Rating: 1A; DC Cold Resistance: 185mR; Approvals: UL; Supplier 1: Digi-Key; Stock 1: 41804; Pricing 1: 1=0.49, 5=0.474, 10=0.459, 50=0.3866, 100=0.3209, 250=0.2917, 500=0.248 (USD); Mount: Surface Mount; Case/Package: 0805; Case Code (Metric): 2012; Case Code (Imperial): 0805; Housing Material: Ceramic; Min Operating Temperature: -55°C; Max Operating Temperature: 125°C; Package Quantity: 1000; Packaging: Tape and Reel; Fuse Current: 1A; Length: 0.079inch; Height: 0.018inch; Width: 0.049inch; Depth: 1.25mm; REACH SVHC: Unknown; Lead Free: Lead Free; ComponentLink1URL: https://datasheet.ciiva.com/22662/1913674-22662919.pdf; ComponentLink1Description: https://datasheet.ciiva.com/22662/1913674-22662919.pdf; ComponentLink2URL: https://datasheet.ciiva.com/3018/mfuserie-3018078.pdf; ComponentLink2Description: https://datasheet.ciiva.com/3018/mfuserie-3018078.pdf; Supplier Part Number 1: MFU08051.00CT-ND
footprint RES0805
pins: 1, 2

## LCD_SCREEN_BTRETRO
designator LCD?, comment Display
TFT Display
footprint LCD_HOLES
pins: 1 LITE, 2 MISO, 3 SCK, 4 MOSI, 5 TFT_CS, 6 CARD_CS, 7 D/C, 8 RESET, 9 VCC, 10 Gnd

## LED_RED_636nm
designator D?  Color: Red  (hidden comment: LED_RED_636nm)
Standard LEDs - SMD Surface Mount LEDs; Manufacturer: Lumex; Manufacturer Part Number: SML-LXR85SIC-TR; Lens Colour: Colorless; Viewing Angle: 160°; Forward Current: 20mA; Forward Voltage: 2V; Power Rating: 80mW; Luminous Intensity: 70mcd; Lens Transparency: Clear; Wavelength: 636nm; Supplier 1: Digi-Key; Supplier Part Number 1: 67-1710-1-ND; Stock 1: 10351; Pricing 1: 1=0.64, 10=0.502, 25=0.4184, 100=0.3604, 250=0.3218, 500=0.2767, 1000=0.2136 (USD); Mount: Surface Mount; Case/Package: SMD/SMT; Number of Pins: 2; Colour: Red; Min Operating Temperature: -25°C; Max Operating Temperature: 85°C; Package Quantity: 1; Packaging: Tape and Reel; Illumination Colour: Red; Test Current: 20mA; Length: 3.2mm; Height: 1mm; Width: 1.5mm; Lead Free: Lead Free; ComponentLink1URL: https://datasheet.ciiva.com/2111/sml-lxr85sic-tr-2111364.pdf; ComponentLink1Description: https://datasheet.ciiva.com/2111/sml-lxr85sic-tr-2111364.pdf; ComponentLink2URL: https://datasheet.ciiva.com/2111/sml-lxr85sic-tr-2111365.pdf; ComponentLink2Description: https://datasheet.ciiva.com/2111/sml-lxr85sic-tr-2111365.pdf; ComponentLink3URL: https://datasheet.ciiva.com/2111/sml-lxr85sic-tr-2111366.pdf; ComponentLink3Description: https://datasheet.ciiva.com/2111/sml-lxr85sic-tr-2111366.pdf; ComponentLink4URL: https://datasheet.ciiva.com/4688/sml-lxr85sic-tr-115543-4688938.pdf; ComponentLink4Description: https://datasheet.ciiva.com/4688/sml-lxr85sic-tr-115543-4688938.pdf
footprint POWERLED_FP
pins: 1 Cathode, 2 Anode

## LMZ12003
designator U?
POWER MODULE, TO-PMOD-7, FULL REEL; Manufacturer: Texas Instruments; Manufacturer Part Number: LMZ12003TZ-ADJ/NOPB; Min Input Voltage: 4.5V; Max Input Voltage: 20V; Number of Outputs: 1; Output Current: 3A; Output Voltage: 6V; Switching Frequency: 1MHz; Efficiency: 92%; Min Output Voltage: 800mV; Quiescent Current: 1mA; Max Power Dissipation: 18W; Supplier 1: Digi-Key; Stock 1: 0; Pricing 1: 1=9.05, 5=8.986, 10=8.918, 25=8.7804, 50=8.5062, 100=7.683 (USD); Mount: Surface Mount; Number of Pins: 8; Min Operating Temperature: -40°C; Max Operating Temperature: 125°C; Packaging: Tape and Reel; Package Quantity: 1; Voltage - Output 1: 6V; Max Output Current: 3A; Max Output Voltage: 6V; Length: 0.4inch; Height: 0.18inch; Width: 0.54inch; REACH SVHC: No SVHC; Lead Free: Lead Free; ComponentLink1URL: https://datasheet.ciiva.com/48695/001207013-da-01-en-ic-buc-lmz12003tz-adj-nopb-to-pmod-7-tid-48695238.pdf; ComponentLink1Description: https://datasheet.ciiva.com/48695/001207013-da-01-en-ic-buc-lmz12003tz-adj-nopb-to-pmod-7-tid-48695238.pdf; Supplier Part Number 1: LMZ12003TZ-ADJ/NOPBCT-ND
footprint TO-PMOD-7
pins: 1 VIN, 2 RON, 3 EN, 4 GND, 5 SS, 6 FB, 7 VOUT, 8 EP

## LSM6DS3HTR
designator U?
Accelerometer and Gyroscope 14-Pin LGA T/R; Manufacturer: STMicroelectronics; Manufacturer Part Number: LSM6DS3HTR; Supplier 1: Digi-Key; Stock 1: 31997; Pricing 1: 1=3.98, 10=3.572, 100=2.9264 (USD); Mount: Surface Mount; Contact Plating: Nickel,Gold; Min Operating Temperature: -40°C; Max Operating Temperature: 85°C; Packaging: Tape and Reel; Lead Free: Lead Free; ComponentLink1URL: http://www.st.com/content/ccc/resource/technical/document/datasheet/group0/38/96/79/af/ab/62/42/c3/DM00229854/files/DM00229854.pdf/jcr:content/translations/en.DM00229854.pdf; ComponentLink1Description: http://www.st.com/content/ccc/resource/technical/document/datasheet/group0/38/96/79/af/ab/62/42/c3/DM00229854/files/DM00229854.pdf/jcr:content/translations/en.DM00229854.pdf; Supplier Part Number 1: 497-16367-1-ND
footprint PQFN50P300X250X86_HS-15N (PQFN, 14-Leads, Body 3.00x2.50mm, Pitch 0.50mm, Thermal Pad 1.45x1.95mm, IPC Medium Density)
pins: 1 SDO/SA0, 2 SDx, 3 SCx, 4 INT1 (out), 5 VDDIO (power), 6 GND (power), 7 GND (power), 8 VDD (power), 9 INT2, 10 CS_Aux, 11 NC, 12 CS, 13 SCL (io), 14 SDA (in)

## MOUNTHOLES
designator MH?  (value not drawn)
HOLE
footprint HOLE_BTRETRO

## MOUNTINGHOLE
designator MH?  (value not drawn)
Mounting Hole For Board
footprint MOUNTINGHOLE (mounting hole)

## NC7SZ157
designator U?, comment NC7SZ167
FAIRCHILD SEMICONDUCTOR         NC7SZ157P6X             Logic Type:Multiplexer; Number of Outputs: 1; Throw Configuration: DPST; Propagation Delay: 3.7ns; Number of Inputs: 2; Logic Function: Multiplexer,Inverting,Mux; Max Supply Voltage: 5.5V; Max Power Dissipation: 180mW; High Level Output Current: 32mA; Supply Type: Single; Supplier 1: Digi-Key; Manufacturer: Fairchild Semiconductor; Manufacturer Part Number: NC7SZ157P6X; Stock 1: 29001; Pricing 1: 1=0.47, 10=0.349, 100=0.1978, 500=0.131, 1000=0.1004 (USD); Mount: Surface Mount; Case/Package: SC; Number of Pins: 6; Weight: 0.028g; Number of Terminals: 6; Contact Plating: Tin,Matte; Min Operating Temperature: -40°C; Max Operating Temperature: 85°C; Packaging: Tape and Reel; Number of Circuits: 1; Package Quantity: 3000; Number of Channels: 1; Low Level Output Current: 32mA; Number of Input Lines: 2; Number of Output Lines: 1; Power Dissipation: 180mW; Independent Circuits: 1; Length: 2mm; Height: 1mm; Width: 1.25mm; Radiation Hardening: No; REACH SVHC: No SVHC; Lead Free: Lead Free; ComponentLink1URL: https://datasheet.ciiva.com/27050/874365-27050578.pdf; ComponentLink1Description: https://datasheet.ciiva.com/27050/874365-27050578.pdf; ComponentLink2URL: https://datasheet.ciiva.com/1888/nc7sz157-1888131.pdf; ComponentLink2Description: https://datasheet.ciiva.com/1888/nc7sz157-1888131.pdf; ComponentLink3URL: https://datasheet.ciiva.com/1888/nc7sz157-1888132.pdf; ComponentLink3Description: https://datasheet.ciiva.com/1888/nc7sz157-1888132.pdf; ComponentLink4URL: https://datasheet.ciiva.com/1509/680929-1509109.pdf; ComponentLink4Description: https://datasheet.ciiva.com/1509/680929-1509109.pdf; ComponentLink5URL: https://datasheet.ciiva.com/1888/nc7sz157-1888133.pdf; ComponentLink5Description: https://datasheet.ciiva.com/1888/nc7sz157-1888133.pdf; ComponentLink6URL: https://datasheet.ciiva.com/1509/680929-1509110.pdf; ComponentLink6Description: https://datasheet.ciiva.com/1509/680929-1509110.pdf; ComponentLink7URL: https://datasheet.ciiva.com/17012/nc7sz157-17012088.pdf; ComponentLink7Description: https://datasheet.ciiva.com/17012/nc7sz157-17012088.pdf; ComponentLink8URL: https://datasheet.ciiva.com/3305/nc7sz157-3305418.pdf; ComponentLink8Description: https://datasheet.ciiva.com/3305/nc7sz157-3305418.pdf; ComponentLink9URL: https://datasheet.ciiva.com/3305/nc7sz157-3305419.pdf; ComponentLink9Description: https://datasheet.ciiva.com/3305/nc7sz157-3305419.pdf; ComponentLink10URL: https://datasheet.ciiva.com/15087/getdatasheetpartid-138973-15087148.pdf; ComponentLink10Description: https://datasheet.ciiva.com/15087/getdatasheetpartid-138973-15087148.pdf; Supplier Part Number 1: NC7SZ157P6XCT-ND
footprint SC70
pins: 1 I1, 2 GND, 3 I0, 4 Z, 5 Vcc, 6 S

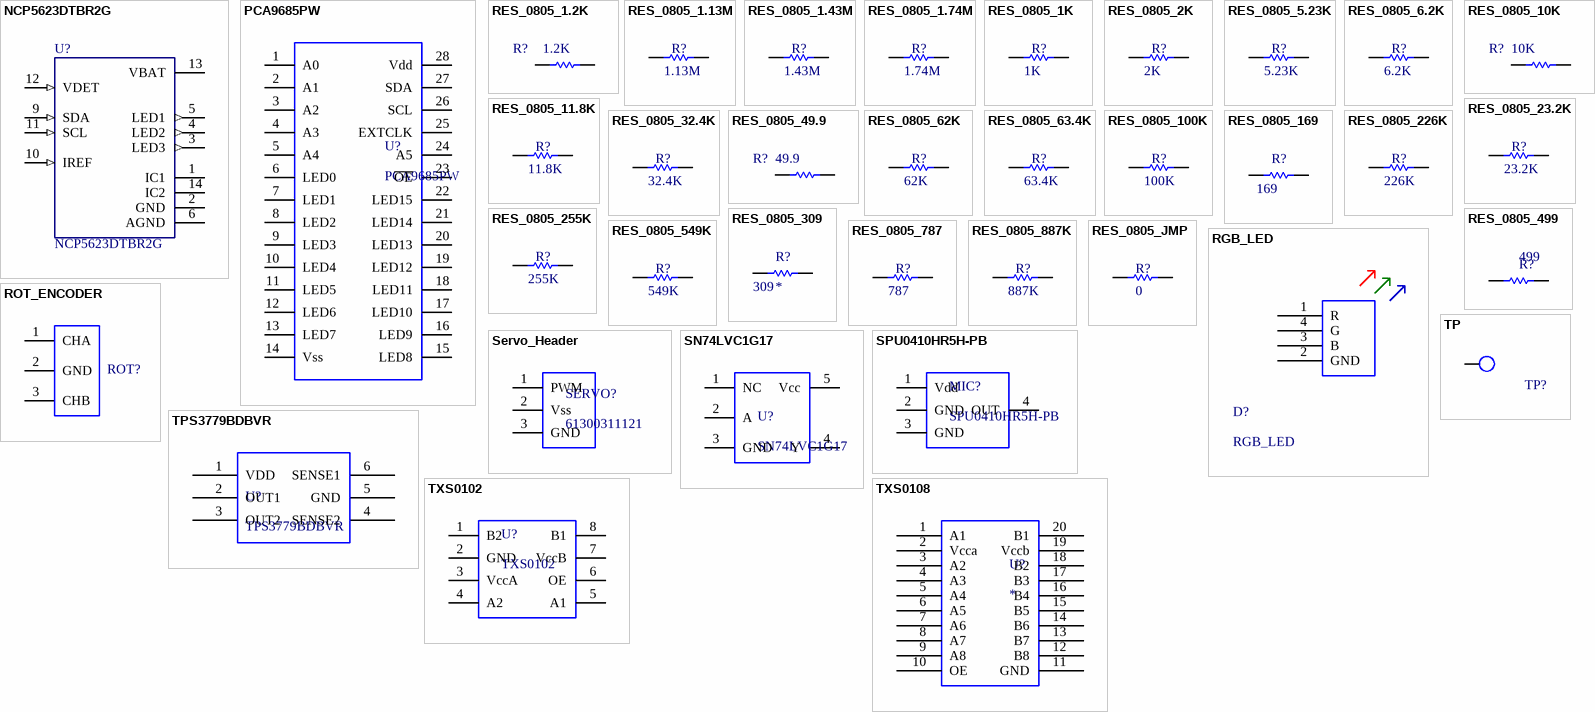
[diagram p1: symbols NCP5623DTBR2G to TXS0108]

## NCP5623DTBR2G
designator U?
LED DRVR 3Segment 3.3V/5V 14-Pin TSSOP T/R; MF: ON Semiconductor; Nominal Supply Current: 1mA; Min Supply Voltage: 2.7V; Max Supply Voltage: 5.5V; Number of Outputs: 3; Frequency: 1.2MHz; Max Power Dissipation: 200mW; Output Voltage: 5.7V; Max Supply Current: 350uA; Power Dissipation: 235mW; Output Current: 90mA; Switching Frequency: 1MHz; Digi-Key_Part_Number: NCP5623DTBR2GOSCT-ND; Digi-Key_Purchase_URL: https://www.digikey.com/product-detail/en/on-semiconductor/NCP5623DTBR2G/NCP5623DTBR2GOSCT-ND/3487424?WT.z_cid=ref_snapeda; Package: TSSOP-14 ON Semiconductor; Value: *; Supplier 1: Digi-Key; Manufacturer: ON Semiconductor; Manufacturer Part Number: NCP5623DTBR2G; Stock 1: 0; Pricing 1: 1=1.68, 10=1.504, 100=1.1727, 500=0.9687, 1000=0.7648 (USD); Mount: Surface Mount; Case/Package: TSSOP; Number of Pins: 14; Contact Plating: Gold; Min Operating Temperature: -40°C; Max Operating Temperature: 85°C; Packaging: Tape and Reel; Package Quantity: 1; Number of Segments: 3; Min Input Voltage: 2.7V; Max Input Voltage: 5.5V; Length: 5.1mm; Height: 1.05mm; Width: 4.5mm; Radiation Hardening: No; REACH SVHC: No SVHC; Lead Free: Lead Free; Halogen Free: Halogen Free; ComponentLink1URL: https://datasheet.ciiva.com/6609/ncp5623-d-6609921.pdf; ComponentLink1Description: https://datasheet.ciiva.com/6609/ncp5623-d-6609921.pdf; ComponentLink2URL: https://datasheet.ciiva.com/3165/ncp5623-d-3165167.pdf; ComponentLink2Description: https://datasheet.ciiva.com/3165/ncp5623-d-3165167.pdf; MP: NCP5623DTBR2G; Supplier Part Number 1: NCP5623DTBR2GOSCT-ND
footprint SOP65P640X120-14N
pins: 1 IC1, 2 GND, 3 LED3 (out), 4 LED2 (out), 5 LED1 (out), 6 AGND, 9 SDA (in), 10 IREF (in), 11 SCL (in), 12 VDET (in), 13 VBAT (power), 14 IC2

## PCA9685PW
designator U?
IC LED DRIVER RGBA 28-TSSOP; Manufacturer: NXP Semiconductors; Manufacturer Part Number: PCA9685PW,118; Number of Outputs: 16; Frequency: 1MHz; Max Supply Voltage: 5.5V; Min Supply Voltage: 2.3V; Nominal Supply Current: 10A; Output Current per Channel: 25mA; High Level Output Current: 10mA; Low Level Output Current: 400A; Power Dissipation: 400W; Supplier 1: Digi-Key; Stock 1: 2599; Pricing 1: 1=2.31, 10=2.074, 100=1.6674, 500=1.3699, 1000=1.1351 (USD); Mount: Surface Mount; Case/Package: TSSOP; Number of Pins: 28; Min Operating Temperature: -40°C; Max Operating Temperature: 85°C; Packaging: Tape and Reel; Package Quantity: 2500; Output Voltage: 5.5V; Radiation Hardening: No; Lead Free: Lead Free; ComponentLink1URL: https://datasheet.ciiva.com/1947/pca9685-1947062.pdf; ComponentLink1Description: https://datasheet.ciiva.com/1947/pca9685-1947062.pdf; ComponentLink2URL: https://datasheet.ciiva.com/15134/getdatasheetpartid-103066-15134201.pdf; ComponentLink2Description: https://datasheet.ciiva.com/15134/getdatasheetpartid-103066-15134201.pdf; ComponentLink3URL: https://datasheet.ciiva.com/8125/pca9685-8125357.pdf; ComponentLink3Description: https://datasheet.ciiva.com/8125/pca9685-8125357.pdf; Supplier Part Number 1: 568-11925-1-ND
footprint TSSOP28
pins: 1 A0, 2 A1, 3 A2, 4 A3, 5 A4, 6 LED0, 7 LED1, 8 LED2, 9 LED3, 10 LED4, 11 LED5, 12 LED6, 13 LED7, 14 Vss, 15 LED8, 16 LED9, 17 LED10, 18 LED11, 19 LED12, 20 LED13, 21 LED14, 22 LED15, 23 ~{OE}, 24 A5, 25 EXTCLK, 26 SCL, 27 SDA, 28 Vdd

## RES_0805_1.2K
designator R?  Resistance: 1.2K  (hidden comment: *)
Res Thick Film 0805 1.2K Ohm 5% 0.125W(1/8W) ±200ppm/C Molded SMD Automotive T/R; Manufacturer: Stackpole Electronics; Manufacturer Part Number: RMCF0805JT1K20; Max Power Dissipation: 125mW; Temperature Coefficient: 200ppm/°C; Supplier 1: Digi-Key; Stock 1: 133190; Pricing 1: 1=0.1, 10=0.017, 100=0.0067, 1000=0.003, 2500=0.0026 (USD); Mount: Surface Mount; Case/Package: 0805; Case Code (Metric): 2012; Case Code (Imperial): 0805; Contact Plating: Tin,Matte; Min Operating Temperature: -55°C; Max Operating Temperature: 155°C; Packaging: Tape and Reel; Tolerance: 5%; Composition: Thick Film; Number of Terminations: 2; Military Standard: Not; Length: 0.079inch; Height: 0.026inch; Width: 0.049inch; Depth: 1.25mm; Radiation Hardening: No; Lead Free: Lead Free; ComponentLink1URL: https://www.verical.com/server-webapp/html/getDatasheet?partID=408272; ComponentLink1Description: https://www.verical.com/server-webapp/html/getDatasheet?partID=408272; ComponentLink2URL: http://components.arrow.com/part/dataview/50565311S7077410N1174; ComponentLink2Description: http://components.arrow.com/part/dataview/50565311S7077410N1174; ComponentLink3URL: https://www.seielect.com/catalog/SEI-RMCF_RMCP.pdf; ComponentLink3Description: https://www.seielect.com/catalog/SEI-RMCF_RMCP.pdf; Supplier Part Number 1: RMCF0805JT1K20CT-ND
footprint RES0805
pins: 1, 2

## RES_0805_1.13M
designator R?, comment RES_1.13M  (value not drawn)
Res Thick Film 0805 1.13M Ohm 1% 1/8W 100ppm/C Molded SMD Punched Carrier T/R; Manufacturer: Panasonic; Manufacturer Part Number: ERJ-6ENF1134V; Resistance: 1.13MR; Power Rating: 125mW; Voltage Rating: 150V; Temperature Coefficient: 100ppm/°C; Supplier 1: Digi-Key; Supplier Part Number 1: P1.13BTCT-ND; Stock 1: 8396; Pricing 1: 1=0.1, 10=0.041, 100=0.0167, 1000=0.0075, 2500=0.0065 (USD); Mount: Surface Mount; Case/Package: 0805; Case Code (Metric): 2012; Case Code (Imperial): 0805; Contact Plating: Tin; Min Operating Temperature: -55°C; Max Operating Temperature: 155°C; Tolerance: 1%; Packaging: Tape and Reel; Package Quantity: 5000; Composition: Thick Film; Number of Terminations: 2; Termination: SMD/SMT; Max Power Dissipation: 125mW; Voltage Rating (DC): 150V; Length: 0.079inch; Height: 0.028inch; Width: 0.049inch; REACH SVHC: No SVHC; Lead Free: Lead Free; ComponentLink1URL: https://datasheet.ciiva.com/46446/1678782-46446917.pdf; ComponentLink1Description: https://datasheet.ciiva.com/46446/1678782-46446917.pdf; ComponentLink2URL: https://datasheet.ciiva.com/24066/aoa0000ce2-24066135.pdf; ComponentLink2Description: https://datasheet.ciiva.com/24066/aoa0000ce2-24066135.pdf; ComponentLink3URL: https://datasheet.ciiva.com/9198/aoa0000ce2-9198600.pdf; ComponentLink3Description: https://datasheet.ciiva.com/9198/aoa0000ce2-9198600.pdf; ComponentLink4URL: https://datasheet.ciiva.com/22757/1678782-22757053.pdf; ComponentLink4Description: https://datasheet.ciiva.com/22757/1678782-22757053.pdf; ComponentLink5URL: https://datasheet.ciiva.com/22743/1678782-22743119.pdf; ComponentLink5Description: https://datasheet.ciiva.com/22743/1678782-22743119.pdf
footprint RES0805
pins: 1, 2
text: 1.13M